# EAGLE library part E07-868MS10 (library e07-868ms10)
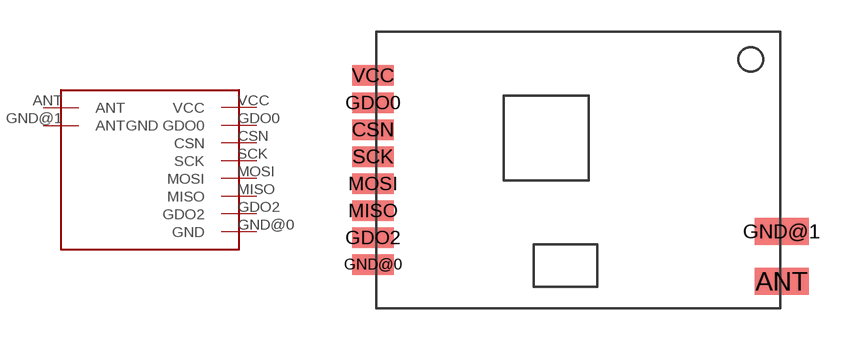
[diagram p0: symbol with the pads of E07-868MS10; footprint E07-868MS10]

Designator prefix -

## E07-868MS10  [E07-868MS10]
ANT  ANT
CSN  CSN
GDO0  GDO0
GDO2  GDO2
GND@0  GND
GND@1  ANTGND
MISO  MISO
MOSI  MOSI
SCK  SCK
VCC  VCC

## Footprint E07-868MS10 (pad centres in mm)
smd 2.54 x 1.27: ANT 19.05,1.25; GND@1 19.05,3.6
smd 1.93 x 0.965: CSN -0.15,8.4; GDO0 -0.15,9.67; GDO2 -0.15,3.32; GND@0 -0.15,2.05; MISO -0.15,4.59; MOSI -0.15,5.86; SCK -0.15,7.13; VCC -0.15,10.95